# Altium footprint library PCB_CCH_Touch_V1.0.PcbLib: 27 footprints (part 1 of 2)
Each footprint in its own frame and in the unit in brackets; x right, y up, seen from the top. Pads: shape width x height; smd on the part's side, far side on the other; paste and mask are expansions set on the pad; w line width, h text height; cw(c..) or ccw(c..) is an arc to the next point about the centre after c.
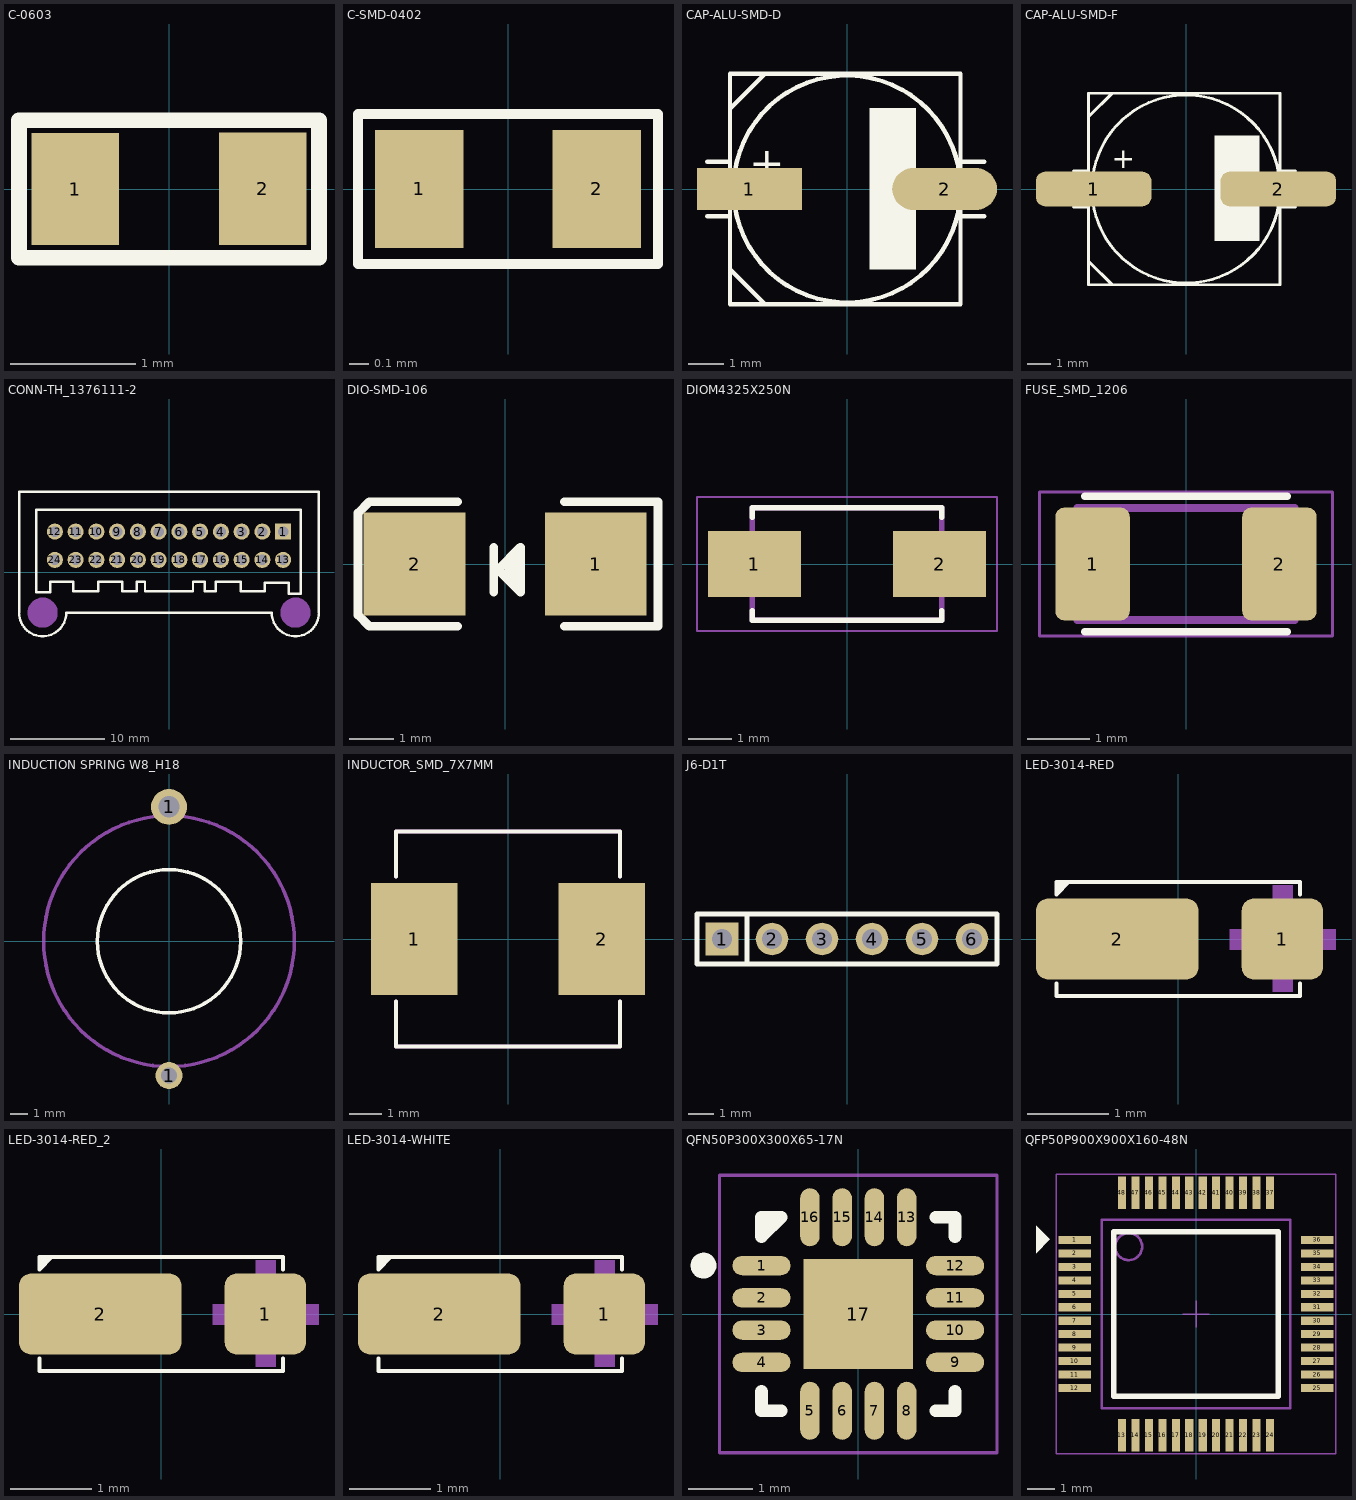
[diagram p0: the footprints below, top view; thin cyan lines are the x and y axes]

## C-0603 [mm]
pads (2):
  rect 0.7x0.9 smd: 1(-0.75,0) 2(0.75,0)
Top Overlay:
  lines w0.127: -1.2,-0.55 -1.2,0.55 1.2,0.55 1.2,-0.55 -1.2,-0.55
3D body "User Library-SMD CAPACITOR.STEP": height 0.8, standoff 0, extent -0.8,-0.4 0.8,0.4

## C-SMD-0402 [mm]
pads (2):
  rect 0.45x0.6 smd: 1(-0.45,0) 2(0.45,0)
Top Overlay:
  lines w0.05: -0.762,-0.381 -0.762,0.381 0.762,0.381 0.762,-0.381 -0.762,-0.381
3D body "User Library-cap_0402.STEP": height 0.5, standoff 0, extent -0.5,-0.25 0.5,0.25

## CAP-ALU-SMD-D [mm]
pads (2):
  rect 3x1.2 smd: 1(-2.794,0)
  oval 3x1.2 smd: 2(2.794,0)
Top Overlay:
  circle w0.127: c0,0 r3.25
  rectangle: 0.65,-2.299 1.975,2.326
  lines w0.127: -4,-0.775 -3.35,-0.775 ; -4,0.775 -3.35,0.775 ; -3.35,-2.65 -3.35,0 ; -3.35,-2.3 -2.35,-3.3 ; -3.35,2.3 -2.35,3.3 ; 3.25,-0.775 3.925,-0.775 ; 3.25,0.775 3.925,0.775 ; -3.35,-3.3 -3.35,0 ; -3.35,-3.3 -3.35,-3.3 ; -3.35,-3.3 3.25,-3.3 3.25,0 3.25,3.3 -3.35,3.3 -3.35,0
  text "+" at -2.8,0.325 h0.89
3D body "User Library-ALU-D.STEP": height 5.4, standoff 0, extent -3.5,-3.3 3.5,3.3

## CAP-ALU-SMD-F [mm]
pads (2):
  rrect50% 5x1.5 smd: 1(-4,0) 2(4,0)
Top Overlay:
  circle w0.127: c0,0 r4.075
  rectangle: 1.225,-2.25 3.175,2.325
  lines w0.127: -4.875,-0.775 -4.225,-0.775 ; -4.875,0.775 -4.225,0.775 ; -4.225,-2.65 -4.225,0 ; -4.225,2.65 -4.225,0 ; -4.2,-3.15 -3.2,-4.15 ; -4.2,3.15 -3.2,4.15 ; 4.075,-0.775 4.75,-0.775 ; 4.075,0 ccw(c0,0) 4.075,0.025 ; 4.075,0.775 4.75,0.775 ; -4.225,-3.3 -4.225,0 ; -4.225,-3.3 -4.225,-3.3 ; -4.225,0 -4.225,-4.15 4.075,-4.15 4.075,-0.025 ; -4.225,0 -4.225,3.3 ; -4.225,0 -4.225,4.15 4.075,4.15 4.075,0.025 ; -4.225,3.3 -4.225,3.3 ; 4.075,-0.025 4.075,-0.025 ; 4.075,0.025 4.075,0.025
  text "+" at -3.225,0.9 h0.89
3D body "User Library-ALU-F.STEP": height 10.2, standoff 0, extent -4.95,-4.15 4.95,4.15

## CONN-TH_1376111-2 [mm]
pads (24):
  rect 1.7x1.7 hole 1.1 paste-2539.97 mask+0.05: 1(12.1,4.3)
  round 1.7 hole 1.1 paste-2539.97 mask+0.05: 2(9.9,4.3) 3(7.7,4.3) 4(5.5,4.3) 5(3.3,4.3) 6(1.1,4.3) 7(-1.1,4.3) 8(-3.3,4.3) 9(-5.5,4.3) 10(-7.7,4.3) 11(-9.9,4.3) 12(-12.1,4.3) 13(12.1,1.3) 14(9.9,1.3) 15(7.7,1.3) 16(5.5,1.3) 17(3.3,1.3) 18(1.1,1.3) 19(-1.1,1.3) 20(-3.3,1.3) 21(-5.5,1.3) 22(-7.7,1.3) 23(-9.9,1.3) 24(-12.1,1.3)
Top Overlay:
  lines w0.254: -15.906,-4.3 ccw(c-13.4,-4.3) -10.894,-4.3 10.894,-4.3 ccw(c13.4,-4.3) 15.906,-4.3 ; -15.9,-4.3 -15.9,8.527 15.9,8.527 15.9,-4.3 ; -14.097,-2.153 -12.573,-2.153 -12.573,-1.01 -10.16,-1.01 -10.16,-2.026 -7.493,-2.026 -7.493,-1.01 -4.953,-1.01 -4.953,-2.026 -3.429,-2.026 -3.429,-1.01 -2.54,-1.01 -2.54,-2.026 2.54,-2.026 2.54,-1.01 3.81,-1.01 3.81,-2.026 4.953,-2.026 4.953,-1.137 4.953,-1.01 7.62,-1.01 7.62,-2.026 10.16,-2.026 10.16,-1.137 12.7,-1.137 12.7,-2.28 13.97,-2.28 13.97,6.61 -14.097,6.61 -14.097,-2.153
Mechanical 15:
  circle w1.6: c13.4,-4.3 r0.8
  circle w1.6: c-13.4,-4.3 r0.8
3D body "Conector_10.06.2026.stp": height 23.41, standoff 0.01, extent -16.027,-6.822 15.773,8.478

## DIO-SMD-106 [mil]
pads (2):
  rect 90x90.55 smd: 1(80,0) 2(-80,0)
Top Overlay:
  lines w7.87: -42.24,-55 -120,-55 -130,-45 -130,45 -120,55 -42.24,55 ; -10.12,-24.68 -10.12,14.69 ; 3.66,-10.91 3.66,0.91 ; 9.57,-16.81 9.57,6.81 ; 52.24,-55 135,-55 135,55 52.24,55 ; -6.18,-5 13.5,-24.68 13.5,14.69 -6.18,-5
Mechanical 1:
  lines w3.94: -2.87,0 12.87,0 ; 5,-7.87 5,7.87
3D body "User Library-DO-214Aa SMA.step": height 94.59, standoff 0, extent -98.7,-50.27 106.03,52.09

## DIOM4325X250N [mm]
pads (2):
  rect 2.12x1.5 smd: 1(-2.115,0) 2(2.115,0)
Top Overlay:
  lines w0.127: -2.165,-1.07 -2.165,-1.28 2.165,-1.28 2.165,-1.07 ; -2.165,1.07 -2.165,1.28 2.165,1.28 2.165,1.07
Mechanical 13:
  lines w0.127: -2.165,-1.28 -2.165,1.28 2.165,1.28 2.165,-1.28 -2.165,-1.28
Mechanical 15:
  lines w0.05: -3.425,-1.53 -3.425,1.53 3.425,1.53 3.425,-1.53 -3.425,-1.53
3D body "step_temp.STEP": height 2.5, standoff 0, extent -2.57,-1.28 2.57,1.28

## FUSE_SMD_1206 [mm]
pads (2):
  rrect25% 1.2x1.82 smd: 1(-1.505,0) 2(1.505,0)
Top Overlay:
  lines w0.127: -1.63,-1.09 1.63,-1.09 ; -1.63,1.09 1.63,1.09
Mechanical 13:
  lines w0.127: -1.75,-0.9 -1.75,0.9 1.75,0.9 1.75,-0.9 -1.75,-0.9
Mechanical 15:
  lines w0.05: -2.36,-1.16 -2.36,1.16 2.36,1.16 2.36,-1.16 -2.36,-1.16
3D body "0ZCJ0035AF2E.STEP": height 0.86, standoff 0.01, extent -1.625,-0.825 1.625,0.825

## INDUCTION SPRING W8_H18 [mm]
pads (2):
  round 1.5 hole 0.9 mask+0.102: 1(0,-7.5)
  round 2 hole 1.2 mask+0.102: 1(0,7.5)
Top Overlay:
  circle w0.2: c0,0 r4
Mechanical 2:
  circle w0.2: c0,0 r7
3D body "Lo xo F15 H18.stp": height 19.25, standoff -2, extent -7.5,-7.498 7.499,7.5

## INDUCTOR_SMD_7X7MM [mm]
pads (2):
  rect 2.7x3.505 smd: 1(-2.929,0) 2(2.929,0)
Top Overlay:
  lines w0.127: -3.5,-1.95 -3.5,-3.35 3.5,-3.35 3.5,-1.95 ; -3.5,1.95 -3.5,3.35 3.5,3.35 3.5,1.95
Mechanical 13:
  lines w0.127: -3.5,-1.95 -3.5,-3.35 3.5,-3.35 3.5,-1.95 ; -3.5,1.95 -3.5,3.35 3.5,3.35 3.5,1.95
3D body "Inductor_SMD_AMPLF_0630.STEP": height 3.01, standoff 0, extent -3.65,-3.35 3.65,3.35

## J6-D1T [mm]
pads (6):
  rect 1.3x1.3 hole 0.8: 1(-5,0)
  round 1.3 hole 0.8: 2(-3,0) 3(-1,0) 4(1,0) 5(3,0) 6(5,0)
Top Overlay:
  lines w0.2: -4,-1 -4,1 ; -6,-1 6,-1 6,1 -6,1 -6,-1
3D body "62000611121.stp": height 6.01, standoff -2.79, extent -6,-1 6,1

## LED-3014-RED [mm]
pads (2):
  rrect30% 1x1 smd paste+0 mask+0.051: 1(1.28,0)
  rrect30% 2x1 smd paste+0 mask+0.051: 2(-0.75,0)
Top Overlay:
  region: -1.5,0.7 -1.5,0.55 -1.35,0.7
  lines w0.05: -1.5,-0.55 -1.5,-0.7 1.5,-0.7 1.5,-0.55 ; -1.35,0.7 -1.5,0.55 -1.5,0.7 1.5,0.7 1.5,0.55
Mechanical 15:
  region: 0.631,-0.13 0.631,0.12 1.941,0.12 1.941,-0.13
  region: 1.41,-0.649 1.16,-0.649 1.16,0.661 1.41,0.661
  region: -1.399,-0.13 -1.399,0.12 -0.089,0.12 -0.089,-0.13
3D body "MP-3014-1100-50-80_red.step": height 0.52, standoff 0, extent -1.5,-0.7 1.5,0.7

## LED-3014-RED_2 [mm]
pads (2):
  rrect30% 1x1 smd paste+0 mask+0.051: 1(1.28,0)
  rrect30% 2x1 smd paste+0 mask+0.051: 2(-0.75,0)
Top Overlay:
  region: -1.5,0.7 -1.5,0.55 -1.35,0.7
  lines w0.05: -1.5,-0.55 -1.5,-0.7 1.5,-0.7 1.5,-0.55 ; -1.35,0.7 -1.5,0.55 -1.5,0.7 1.5,0.7 1.5,0.55
Mechanical 15:
  region: 0.631,-0.13 0.631,0.12 1.941,0.12 1.941,-0.13
  region: 1.41,-0.649 1.16,-0.649 1.16,0.661 1.41,0.661
  region: -1.399,-0.13 -1.399,0.12 -0.089,0.12 -0.089,-0.13
3D body "MP-3014-1100-50-80_red.step": height 0.52, standoff 0, extent -1.5,-0.7 1.5,0.7

## LED-3014-WHITE [mm]
pads (2):
  rrect30% 1x1 smd paste+0 mask+0.051: 1(1.28,0)
  rrect30% 2x1 smd paste+0 mask+0.051: 2(-0.75,0)
Top Overlay:
  region: -1.5,0.7 -1.5,0.55 -1.35,0.7
  lines w0.05: -1.5,-0.55 -1.5,-0.7 1.5,-0.7 1.5,-0.55 ; -1.35,0.7 -1.5,0.55 -1.5,0.7 1.5,0.7 1.5,0.55
Mechanical 15:
  region: -1.399,-0.13 -1.399,0.12 -0.089,0.12 -0.089,-0.13
  region: 1.41,-0.649 1.16,-0.649 1.16,0.661 1.41,0.661
  region: 0.631,-0.13 0.631,0.12 1.941,0.12 1.941,-0.13
3D body "MP-3014-1100-50-80--3DModel-STEP-483804.STEP": height 0.52, standoff 0, extent -1.5,-0.7 1.5,0.7

## QFN50P300X300X65-17N [mm]
pads (17):
  oval 0.9x0.3 smd: 1(-1.5,0.75) 2(-1.5,0.25) 3(-1.5,-0.25) 4(-1.5,-0.75) 9(1.5,-0.75) 10(1.5,-0.25) 11(1.5,0.25) 12(1.5,0.75)
  oval 0.3x0.9 smd: 5(-0.75,-1.5) 6(-0.25,-1.5) 7(0.25,-1.5) 8(0.75,-1.5) 13(0.75,1.5) 14(0.25,1.5) 15(-0.25,1.5) 16(-0.75,1.5)
  rect 1.7x1.7 smd: 17(0,0)
Top Overlay:
  circle w0.2: c-2.4,0.75 r0.1
  lines w0.2: -1.5,-1.2 -1.5,-1.5 -1.2,-1.5 ; 1.2,-1.5 1.5,-1.5 1.5,-1.2 ; 1.2,1.5 1.5,1.5 1.5,1.2 ; -1.5,1.2 -1.5,1.5 -1.2,1.5 -1.5,1.2
Mechanical 15:
  lines w0.05: -2.15,-2.15 -2.15,2.15 2.15,2.15 2.15,-2.15 -2.15,-2.15
3D body "CY8CMBR3108-LQXIT--3DModel-STEP-510211.STEP": height 1, standoff 0, extent -1.5,-1.5 1.5,1.5

## QFP50P900X900X160-48N [mm]
pads (48):
  rect 1.2x0.3 smd: 1(-4.5,2.75) 2(-4.5,2.25) 3(-4.5,1.75) 4(-4.5,1.25) 5(-4.5,0.75) 6(-4.5,0.25) 7(-4.5,-0.25) 8(-4.5,-0.75) 9(-4.5,-1.25) 10(-4.5,-1.75) 11(-4.5,-2.25) 12(-4.5,-2.75) 25(4.5,-2.75) 26(4.5,-2.25) 27(4.5,-1.75) 28(4.5,-1.25) 29(4.5,-0.75) 30(4.5,-0.25) 31(4.5,0.25) 32(4.5,0.75) 33(4.5,1.25) 34(4.5,1.75) 35(4.5,2.25) 36(4.5,2.75)
  rect 0.3x1.2 smd: 13(-2.75,-4.5) 14(-2.25,-4.5) 15(-1.75,-4.5) 16(-1.25,-4.5) 17(-0.75,-4.5) 18(-0.25,-4.5) 19(0.25,-4.5) 20(0.75,-4.5) 21(1.25,-4.5) 22(1.75,-4.5) 23(2.25,-4.5) 24(2.75,-4.5) 37(2.75,4.5) 38(2.25,4.5) 39(1.75,4.5) 40(1.25,4.5) 41(0.75,4.5) 42(0.25,4.5) 43(-0.25,4.5) 44(-0.75,4.5) 45(-1.25,4.5) 46(-1.75,4.5) 47(-2.25,4.5) 48(-2.75,4.5)
Top Overlay:
  region: -5.944,3.277 -5.436,2.769 -5.944,2.261
  lines w0.2: -3.05,-3.05 3.05,-3.05 3.05,3.05 -3.05,3.05 -3.05,-3.05
Mechanical 12:
  lines w0.001: -3.5,-3.5 3.5,-3.5 3.5,3.5 -3.5,3.5 -3.5,-3.5
Mechanical 13:
  circle w0.1: c-2.5,2.5 r0.5
  lines w0.1: -3.5,-3.5 3.5,-3.5 3.5,3.5 -3.5,3.5 -3.5,-3.5
Mechanical 15:
  lines w0.05: -0.5,0 0.5,0 ; 0,-0.5 0,0.5 ; -5.2,-5.2 5.2,-5.2 5.2,5.2 -5.2,5.2 -5.2,-5.2
3D body "STM32F103C8T6--3DModel-STEP-510211.STEP": height 1.6, standoff 0, extent -4.5,-4.5 4.5,4.5